# Altium footprint library SOD123.PcbLib: 1 footprints
Each footprint in its own frame and in the unit in brackets; x right, y up, seen from the top. Pads: shape width x height; smd on the part's side, far side on the other; paste and mask are expansions set on the pad; w line width, h text height; cw(c..) or ccw(c..) is an arc to the next point about the centre after c.
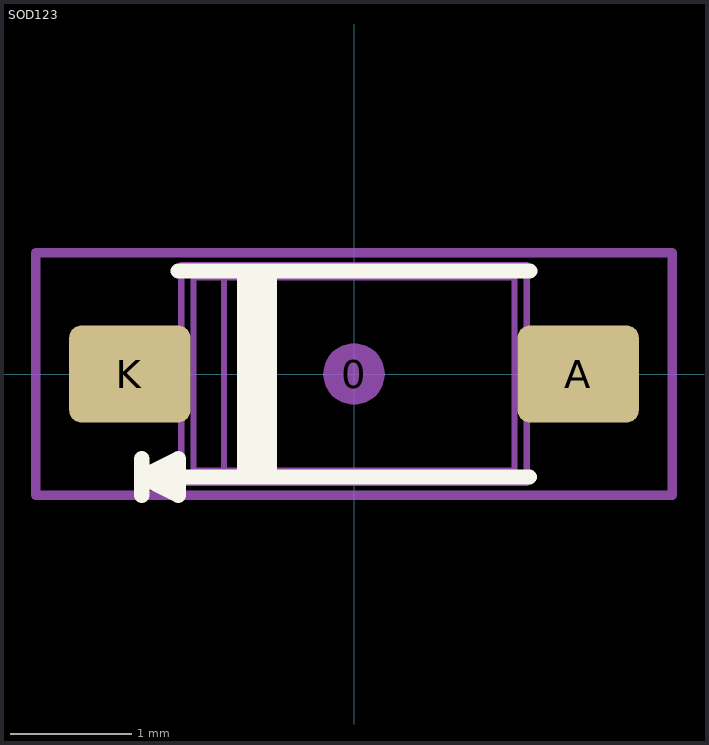
[diagram p0: the footprint, top view; thin cyan lines are the x and y axes]

## SOD123 [mm] "SOD-123; 2 Leads; Body 2.7 x 1.6 mm, (LxW)"
height 1.35
pads (3):
  round 0.508 on Mech15: 0(0,0)
  rrect25% 1x0.8 smd: A(1.85,0) K(-1.85,0)
Top Overlay:
  lines w0.127: -1.75,-1 -1.75,-0.7 ; -1.45,0.85 1.45,0.85 ; -0.9,-0.85 -0.9,0.85 ; -0.8,-0.85 -0.8,0.85 ; -0.7,-0.85 -0.7,0.85 ; 1.448,-0.85 -1.45,-0.85 -1.75,-0.85 ; -1.75,-0.85 -1.45,-0.7 -1.45,-1 -1.75,-0.85
Mechanical 13:
  lines w0.05: -1.766,-0.308 -1.766,0.308 ; -1.707,-0.308 -1.707,0.308 ; -1.517,-0.308 -1.517,0.308 ; -1.425,-0.308 -1.95,-0.308 -1.95,0.308 -1.425,0.308 ; 1.425,-0.308 1.95,-0.308 1.95,0.308 1.425,0.308 ; 1.517,-0.308 1.517,0.308 ; 1.707,-0.308 1.707,0.308 ; 1.766,-0.308 1.766,0.308 ; -1.425,-0.9 -1.425,0.9 ; -1.425,-0.9 -1.323,-0.798 ; -1.425,-0.9 1.425,-0.9 ; -1.425,0.9 1.425,0.9 ; -1.425,0.9 -1.323,0.798 ; -1.323,-0.798 -1.323,0.798 ; -1.323,-0.798 -1.072,-0.798 ; -1.323,0.798 -1.072,0.798 ; -1.072,-0.798 -1.072,0.798 ; -1.072,-0.798 1.322,-0.797 ; -1.072,0.798 1.322,0.797 ; 1.322,-0.797 1.425,-0.9 ; 1.322,-0.797 1.322,0.797 ; 1.322,0.797 1.425,0.9 ; 1.425,-0.9 1.425,0.9
Mechanical 15:
  lines w0.076: -2.625,-1 -2.625,1 2.625,1 2.625,-1 -2.625,-1
3D body "SOD123.STEP": height 1.18, standoff 0, extent -1.95,-0.9 1.95,0.9